# Altium footprint library CustomFootprints.PcbLib: 1 footprints
Each footprint in its own frame and in the unit in brackets; x right, y up, seen from the top. Pads: shape width x height; smd on the part's side, far side on the other; paste and mask are expansions set on the pad; w line width, h text height; cw(c..) or ccw(c..) is an arc to the next point about the centre after c.
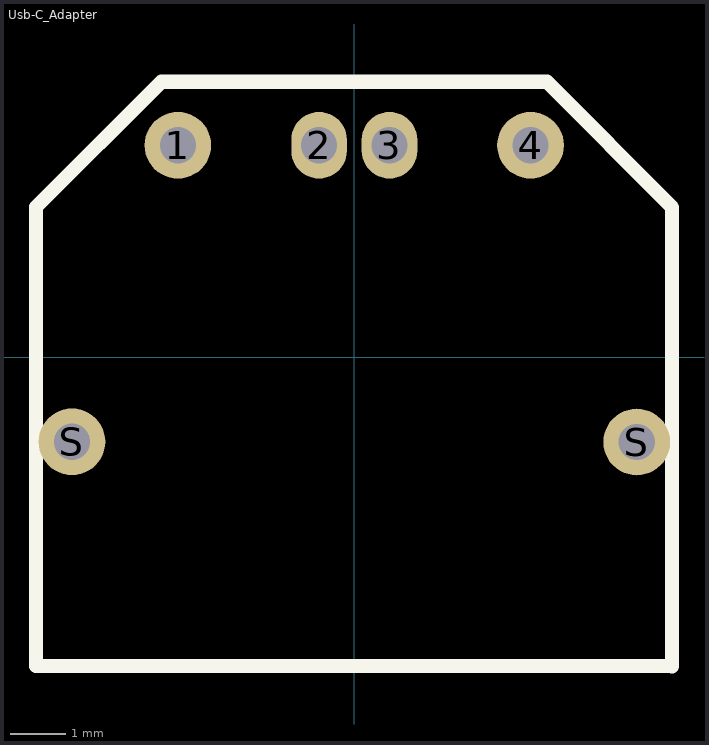
[diagram p0: the footprint, top view; thin cyan lines are the x and y axes]

## Usb-C_Adapter [mm]
pads (6):
  round 1.2 hole 0.65: 1(-3.175,3.81) 4(3.17,3.81) S(-5.08,-1.524) S(5.08,-1.528)
  oval 1x1.2 hole 0.65: 2(-0.635,3.81) 3(0.632,3.81)
Top Overlay:
  lines w0.254: 5.717,-5.562 5.717,2.693 3.466,4.953 -3.466,4.953 -5.73,2.698 -5.73,-5.557 5.717,-5.557